# Altium footprint library pcb_Diode.PcbLib: 30 footprints (part 2 of 2)
Each footprint in its own frame and in the unit in brackets; x right, y up, seen from the top. Pads: shape width x height; smd on the part's side, far side on the other; paste and mask are expansions set on the pad; w line width, h text height; cw(c..) or ccw(c..) is an arc to the next point about the centre after c.
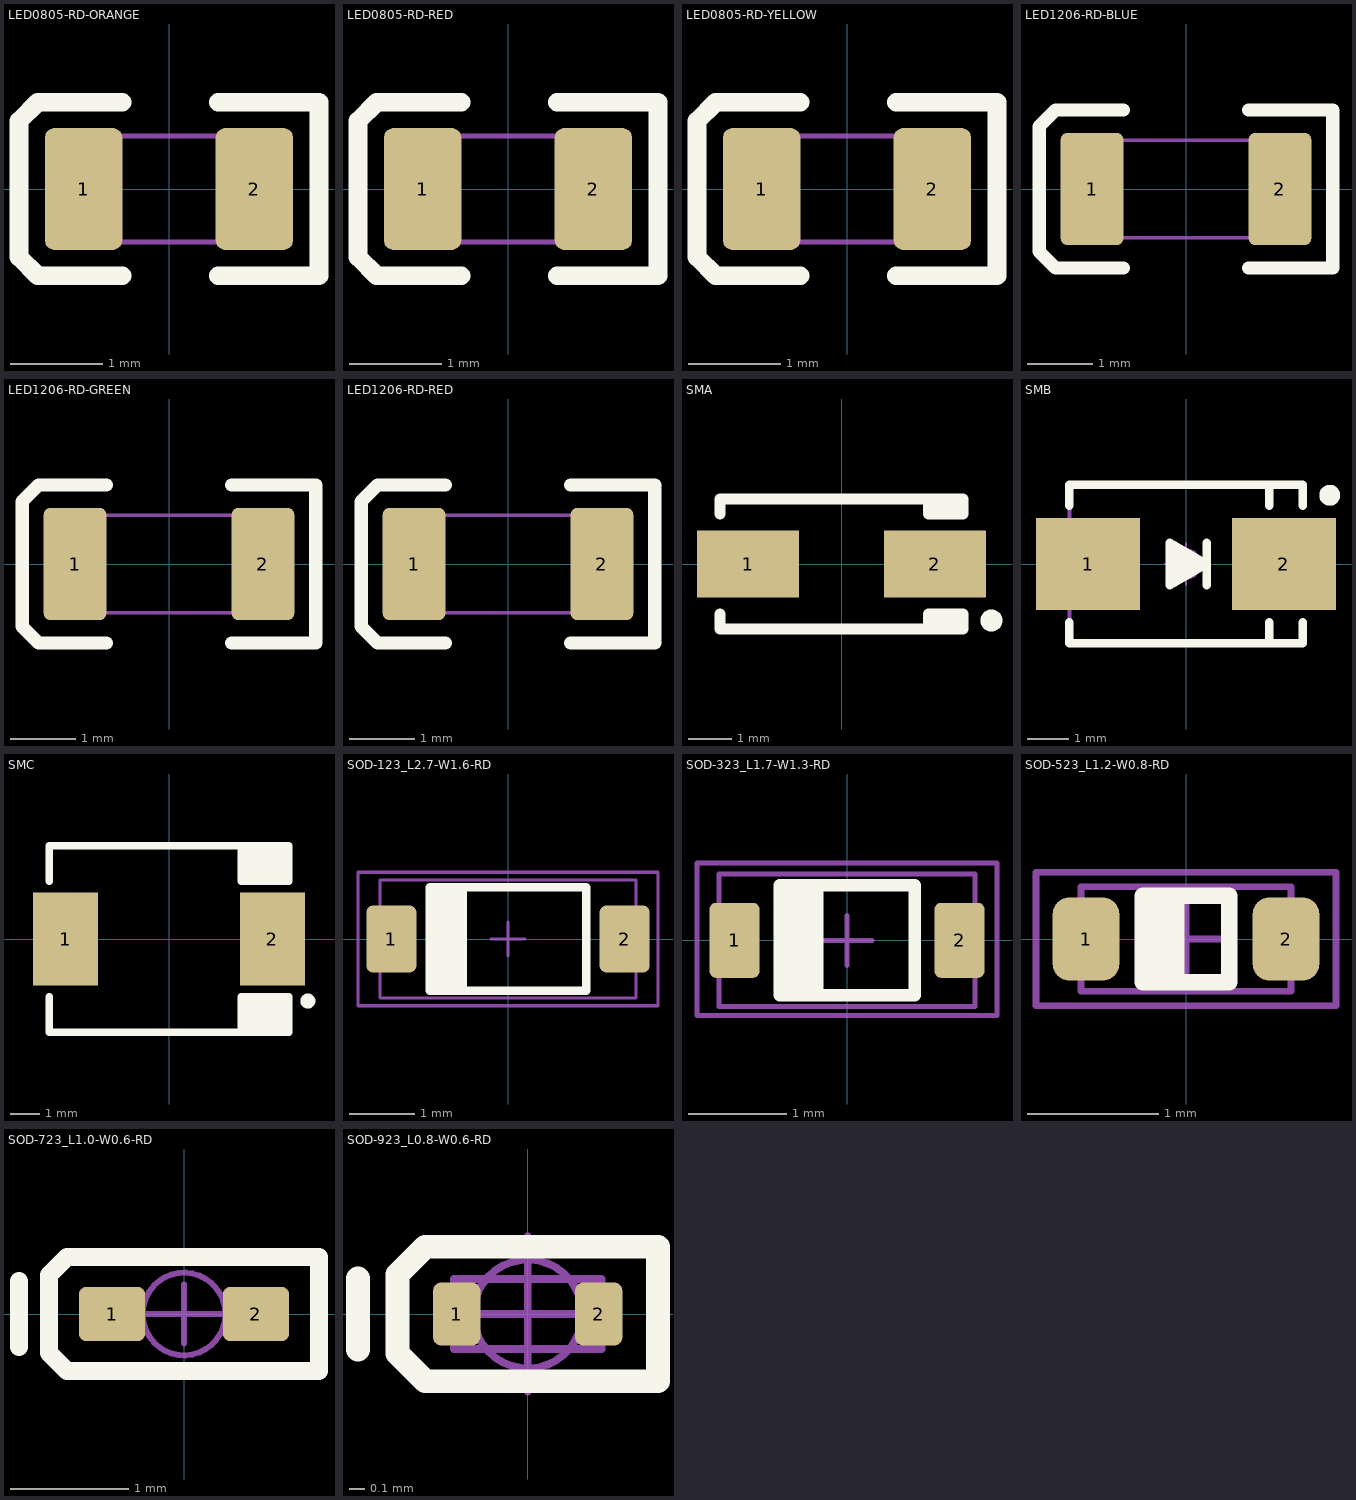
[diagram p1: the footprints below, top view; thin cyan lines are the x and y axes]

## LED0805-RD-ORANGE [mil]
height 47.24
pads (2):
  rrect24% 33x52 smd mask+3: 1(-36.42,0) 2(36.42,0)
Top Overlay:
  lines w8: -20,-37 -56,-37 -64,-29 -64,29 -56,37 -20,37 ; 21,-37 64,-37 64,37 21,37
Mechanical 11:
  lines w2.01: -37.4,-22.64 37.4,-22.64 37.4,22.64 -37.4,22.64 -37.4,-22.64
Mechanical 16:
  text ".Designator" at 0,0 h39.37
3D body "User Library-led_0805LED0805_orange.STEP": height 43.31, standoff 0, extent -39.76,-24.6 39.76,24.61

## LED0805-RD-RED [mil]
height 47.24
pads (2):
  rrect24% 33x52 smd mask+3: 1(-36.42,0) 2(36.42,0)
Top Overlay:
  lines w8: -20,-37 -56,-37 -64,-29 -64,29 -56,37 -20,37 ; 21,-37 64,-37 64,37 21,37
Mechanical 11:
  lines w2.01: -37.4,-22.64 37.4,-22.64 37.4,22.64 -37.4,22.64 -37.4,-22.64
Mechanical 16:
  text ".Designator" at 0,0 h39.37
3D body "User Library-led_0805LED0805_blue.STEP": height 43.31, standoff 0, extent -39.76,-24.6 39.76,24.61

## LED0805-RD-YELLOW [mil]
height 47.24
pads (2):
  rrect24% 33x52 smd mask+3: 1(-36.42,0) 2(36.42,0)
Top Overlay:
  lines w8: -20,-37 -56,-37 -64,-29 -64,29 -56,37 -20,37 ; 21,-37 64,-37 64,37 21,37
Mechanical 11:
  lines w2.01: -37.4,-22.64 -37.4,22.64 37.4,22.64 37.4,-22.64 -37.4,-22.64
Mechanical 16:
  text ".Designator" at 0,0 h39.37
3D body "User Library-led_0805LED0805_yellow.STEP": height 43.31, standoff 0, extent -39.76,-24.61 39.76,24.61

## LED1206-RD-BLUE [mil]
height 47.24
pads (2):
  rrect20% 38x68 smd: 1(-57,0) 2(57,0)
Top Overlay:
  lines w8: -38,-48 -79,-48 -89,-38 -89,38 -79,48 -38,48 ; 38,-48 89,-48 89,48 38,48
Mechanical 11:
  lines w2.01: -59.06,-29.53 59.06,-29.53 59.06,29.53 -59.06,29.53 -59.06,-29.53
Mechanical 16:
  text ".Designator" at 0,0 h39.37
3D body "User Library-led_1206LED1206 blue.STEP": height 43.31, standoff 0, extent -63.38,-31.5 63.39,31.5

## LED1206-RD-GREEN [mil]
height 47.24
pads (2):
  rrect20% 38x68 smd: 1(-57,0) 2(57,0)
Top Overlay:
  lines w8: -38,-48 -79,-48 -89,-38 -89,38 -79,48 -38,48 ; 38,-48 89,-48 89,48 38,48
Mechanical 11:
  lines w2.01: -59.06,-29.53 -59.06,29.53 59.06,29.53 59.06,-29.53 -59.06,-29.53
Mechanical 16:
  text ".Designator" at 0,0 h39.37
3D body "User Library-led_1206LED1206 green.STEP": height 43.31, standoff 0, extent -63.38,-31.5 63.39,31.5

## LED1206-RD-RED [mil]
height 47.24
pads (2):
  rrect20% 38x68 smd: 1(-57,0) 2(57,0)
Top Overlay:
  lines w8: -38,-48 -79,-48 -89,-38 -89,38 -79,48 -38,48 ; 38,-48 89,-48 89,48 38,48
Mechanical 11:
  lines w2.01: -59.06,-29.53 59.06,-29.53 59.06,29.53 -59.06,29.53 -59.06,-29.53
Mechanical 16:
  text ".Designator" at 0,0 h39.37
3D body "User Library-led_1206LED1206 red.STEP": height 43.31, standoff 0, extent -63.38,-31.49 63.39,31.5

## SMA [mm] "DO-214AC"
height 2.03
pads (2):
  rect 2.35x1.55 smd: 1(-2.15,0) 2(2.15,0)
Top Overlay:
  circle w0.254: c3.45,-1.3 r0.127
  lines w0.254: -2.8,-1.15 -2.8,-1.5 2.8,-1.5 2.8,-1.15 2,-1.15 2,-1.5 ; -2.8,1.15 -2.8,1.5 2.8,1.5 2.8,1.15 2,1.15 2,1.5 ; 2.2,-1.5 2.2,-1.15 ; 2.2,1.15 2.2,1.5 ; 2.4,-1.5 2.4,-1.15 ; 2.4,1.15 2.4,1.5 ; 2.6,-1.5 2.6,-1.15 ; 2.6,1.15 2.6,1.5
3D body "SMA.STEP": height 2.64, standoff 0.02, extent -2.6,-1.3 2.6,1.3

## SMB [mm] "4.7*3.9*2.2mm(长宽高，不包括引脚）"
height 2.4
pads (2):
  rect 2.5x2.2 smd: 1(-2.35,0) 2(2.35,0)
Top Overlay:
  circle w0.25: c3.45,1.65 r0.125
  lines w0.2: -2.8,-1.4 -2.8,-1.9 2.8,-1.9 2.8,-1.4 ; -2.8,1.4 -2.8,1.9 2.8,1.9 2.8,1.4 ; 2,-1.9 2,-1.4 ; 2,1.4 2,1.9
  lines w0.203: 0.5,-0.508 0.5,0.508 ; -0.389,-0.508 0.5,0 -0.389,0.508 -0.389,-0.508
  lines w0.254: -0.254,0 0.279,0 ; 0.279,0 -0.229,-0.305 -0.229,0.279 0.279,0
Mechanical 13:
  lines w0.1: 2.8,-1.9 -2.8,-1.9 -2.8,1.9 2.8,1.9
Mechanical 15:
  circle w0.05: c0,0 r0.35
  lines w0.05: -0.5,0 0.5,0 ; 0,-0.5 0,0.5
3D body "SMB.STEP": height 2.35, standoff 0.04, extent -2.629,-1.8 2.675,1.8

## SMC [mm] "DO-214AB"
height 2.65
pads (2):
  rect 2.2x3.15 smd: 1(-3.5,0) 2(3.5,0)
Top Overlay:
  circle w0.254: c4.7,-2.1 r0.127
  lines w0.254: -4.05,-1.95 -4.05,-3.15 4.05,-3.15 4.05,-1.95 2.45,-1.95 2.45,-3.15 ; -4.05,1.95 -4.05,3.15 4.05,3.15 4.05,1.95 2.45,1.95 2.45,3.15 ; 2.65,-3.15 2.65,-1.95 ; 2.65,1.95 2.65,3.15 ; 2.85,-3.15 2.85,-1.95 ; 2.85,1.95 2.85,3.15 ; 3.05,-3.15 3.05,-1.95 ; 3.05,1.95 3.05,3.15 ; 3.25,-3.15 3.25,-1.95 ; 3.25,1.95 3.25,3.15 ; 3.45,-3.15 3.45,-1.95 ; 3.45,1.95 3.45,3.15 ; 3.65,-3.15 3.65,-1.95 ; 3.65,1.95 3.65,3.15 ; 3.85,-3.15 3.85,-1.95 ; 3.85,1.95 3.85,3.15
3D body "SMC.STEP": height 2.67, standoff 0.02, extent -3.95,-2.95 3.95,2.95

## SOD-123_L2.7-W1.6-RD [mil]
height 45.28
pads (2):
  rrect25% 30x40 smd: 1(-70,0) 2(70,0)
Top Overlay:
  region: -47,-31 -47,31 -27,31 -27,-31
  lines w5: -27,-31 -27,31 ; -47,-31 -47,31 47,31 47,-31 -47,-31
Mechanical 13:
  lines w2: -9.99,0 10.01,0 ; 0.01,-10 0.01,10 ; -76.77,-35.43 -76.77,35.43 76.78,35.43 76.78,-35.43 -76.77,-35.43
Mechanical 14:
  lines w2: -90,-40 90,-40 90,40 -90,40 -90,-40
Mechanical 16:
  text ".Designator" at 0,0 h39.37
3D body "User Library-SOD123-1.STEP": height 46.46, standoff 0, extent -76.77,-35.43 76.78,35.43

## SOD-323_L1.7-W1.3-RD [mil]
height 45.28
pads (2):
  rrect25% 20x30 smd mask+2: 1(-45,0) 2(45,0)
Top Overlay:
  region: -12,-22 -27,-22 -27,22 -12,22
  lines w5: -12,-22 -12,22 ; -27,-22 27,-22 27,22 -27,22 -27,-22
Mechanical 13:
  lines w2: -10,0 10,0 ; 0,-10 0,10 ; -51.18,-26.58 -51.18,26.58 51.18,26.58 51.18,-26.58 -51.18,-26.58
Mechanical 14:
  lines w2: -60,-30 60,-30 60,31 -60,31 -60,-30
Mechanical 16:
  text ".Designator" at 0,0 h39.37
3D body "SOD323.STEP": height 43.31, standoff 0, extent -51.18,-26.58 51.18,26.58

## SOD-523_L1.2-W0.8-RD [mil]
height 45.28
pads (2):
  rrect50% 20x25 smd: 1(-30,0) 2(30,0)
Top Overlay:
  region: -3,-13 -13,-13 -13,13 -3,13
  lines w5: -3,-13 -3,13 ; -13,-13 -13,13 13,13 13,-13 -13,-13
Mechanical 13:
  lines w2: -10,0 10,0 ; 0,-10 0,10 ; -31.5,-15.7 31.5,-15.7 31.5,15.7 -31.5,15.7 -31.5,-15.7
Mechanical 14:
  lines w2: -45,-20 45,-20 45,20 -45,20 -45,-20
Mechanical 16:
  text ".Designator" at 0,0 h39.37
3D body "User Library-SOD-523F.STEP": height 27.56, standoff 0, extent -31.5,-15.7 31.5,15.7

## SOD-723_L1.0-W0.6-RD [mil] "1x0.6X0.5mm"
pads (2):
  rrect25% 22x18 smd: 1(-24,0) 2(24,0)
Top Overlay:
  lines w6: -55,-11 -55,11 ; -45,-13 -45,13 -39,19 45,19 45,-19 -39,-19 -45,-13
Mechanical 15:
  circle w1.97: c0,0 r13.78
  lines w1.97: -19.68,0 19.68,0 ; 0,-9.84 0,9.84
Mechanical 16:
  text ".Designator" at 0,0 h39.37
3D body "SOD-723.STEP": height 20.87, standoff 1.06, extent -27.56,-11.81 27.56,11.81

## SOD-923_L0.8-W0.6-RD [mil] "0.8x0.6X0.4mm（长宽高，不包括引脚）"
pads (2):
  rrect36% 12x16 smd mask+3: 1(-18,0) 2(18,0)
Top Overlay:
  lines w6: -43,-9 -43,9 ; -33,-10 -26,-17 33,-17 33,17 -26,17 -33,10 -33,-10
Mechanical 11:
  lines w2.01: -18.7,-8.86 18.7,-8.86 18.7,8.86 -18.7,8.86 -18.7,-8.86
Mechanical 15:
  circle w1.97: c0,0 r13.78
  lines w1.97: -19.68,0 19.68,0 ; 0,-19.68 0,19.68
3D body "SOD-923.STEP": height 16.93, standoff 1.06, extent -19.69,-11.81 19.69,11.81